# Altium schematic symbol library 5mm LED.Schlib: 1 symbol
Pins are listed as number, name and electrical type; pins without a type are passive.

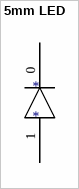
[diagram p0: symbol 5mm LED]

## 5mm LED
designator *
pins: 0, 1